# EAGLE library part PCF5551 (library wheat)
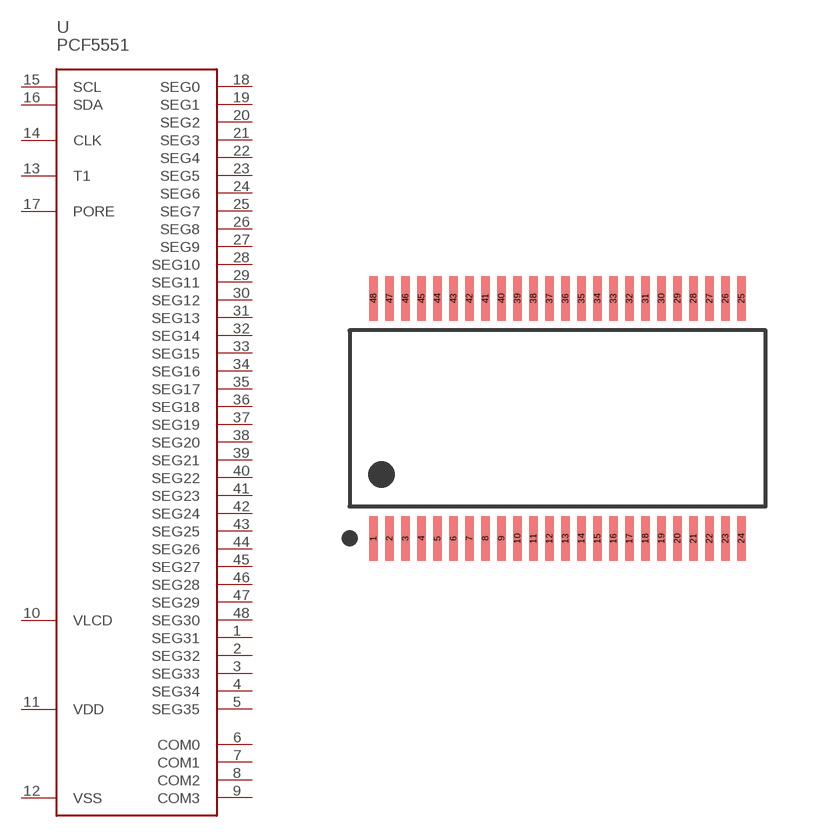
[diagram p265: symbol with the pads of TSSOP48; footprint TSSOP48]

Designator prefix U

## PCF5551ATT  [TSSOP48]
1  SEG31
2  SEG32
3  SEG33
4  SEG34
5  SEG35
6  COM0
7  COM1
8  COM2
9  COM3
10  VLCD
11  VDD
12  VSS
13  T1
14  CLK
15  SCL
16  SDA
17  PORE
18  SEG0
19  SEG1
20  SEG2
21  SEG3
22  SEG4
23  SEG5
24  SEG6
25  SEG7
26  SEG8
27  SEG9
28  SEG10
29  SEG11
30  SEG12
31  SEG13
32  SEG14
33  SEG15
34  SEG16
35  SEG17
36  SEG18
37  SEG19
38  SEG20
39  SEG21
40  SEG22
41  SEG23
42  SEG24
43  SEG25
44  SEG26
45  SEG27
46  SEG28
47  SEG29
48  SEG30

## Footprint TSSOP48 (pad centres in mm)
smd 0.28 x 1.4: 1 0,0; 2 0.5,0; 3 1,0; 4 1.5,0; 5 2,0; 6 2.5,0; 7 3,0; 8 3.5,0; 9 4,0; 10 4.5,0; 11 5,0; 12 5.5,0; 13 6,0; 14 6.5,0; 15 7,0; 16 7.5,0; 17 8,0; 18 8.5,0; 19 9,0; 20 9.5,0; 21 10,0; 22 10.5,0; 23 11,0; 24 11.5,0; 25 11.5,7.5; 26 11,7.5; 27 10.5,7.5; 28 10,7.5; 29 9.5,7.5; 30 9,7.5; 31 8.5,7.5; 32 8,7.5; 33 7.5,7.5; 34 7,7.5; 35 6.5,7.5; 36 6,7.5; 37 5.5,7.5; 38 5,7.5; 39 4.5,7.5; 40 4,7.5; 41 3.5,7.5; 42 3,7.5; 43 2.5,7.5; 44 2,7.5; 45 1.5,7.5; 46 1,7.5; 47 0.5,7.5; 48 0,7.5